# Altium schematic symbol library reg-board-header.Schlib: 1 symbol
Pins are listed as number, name and electrical type; pins without a type are passive.

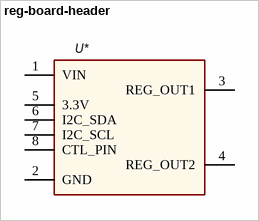
[diagram p0: symbol reg-board-header]

## reg-board-header
designator U*
footprint reg-board-header
pins: 1 VIN, 2 GND, 3 REG_OUT1, 4 REG_OUT2, 5 3.3V, 6 I2C_SDA, 7 I2C_SCL, 8 CTL_PIN